# EAGLE library part L6924U (library dawidkulpa_dev)
Li-Pol, Li-Ion USB/AC charger
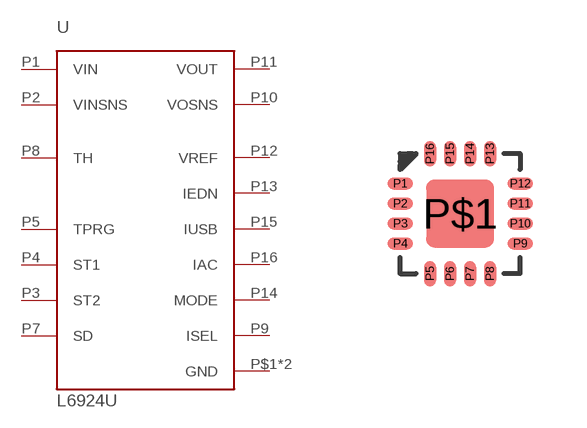
[diagram p6: symbol with the pads of VFQFPN16; footprint VFQFPN16]

Designator prefix -

## L6924U  [VFQFPN16]
P1  VIN
P2  VINSNS
P3  ST2
P4  ST1
P5  TPRG
P6  GND
P7  SD
P8  TH
P9  ISEL
P10  VOSNS
P11  VOUT
P12  VREF
P13  IEDN
P14  MODE
P15  IUSB
P16  IAC
P$1  GND

## Footprint VFQFPN16 (pad centres in mm)
smd 0.635 x 0.3: P1 -1.5,0.75; P2 -1.5,0.25; P3 -1.5,-0.25; P4 -1.5,-0.75; P9 1.5,-0.75; P10 1.5,-0.25; P11 1.5,0.25; P12 1.5,0.75
smd 0.3 x 0.635: P5 -0.75,-1.5; P6 -0.25,-1.5; P7 0.25,-1.5; P8 0.75,-1.5; P13 0.75,1.5; P14 0.25,1.5; P15 -0.25,1.5; P16 -0.75,1.5
smd 1.7 x 1.7: P$1 0,0